# Altium footprint library LEDs.PcbLib: 18 footprints (part 1 of 2)
Each footprint in its own frame and in the unit in brackets; x right, y up, seen from the top. Pads: shape width x height; smd on the part's side, far side on the other; paste and mask are expansions set on the pad; w line width, h text height; cw(c..) or ccw(c..) is an arc to the next point about the centre after c.
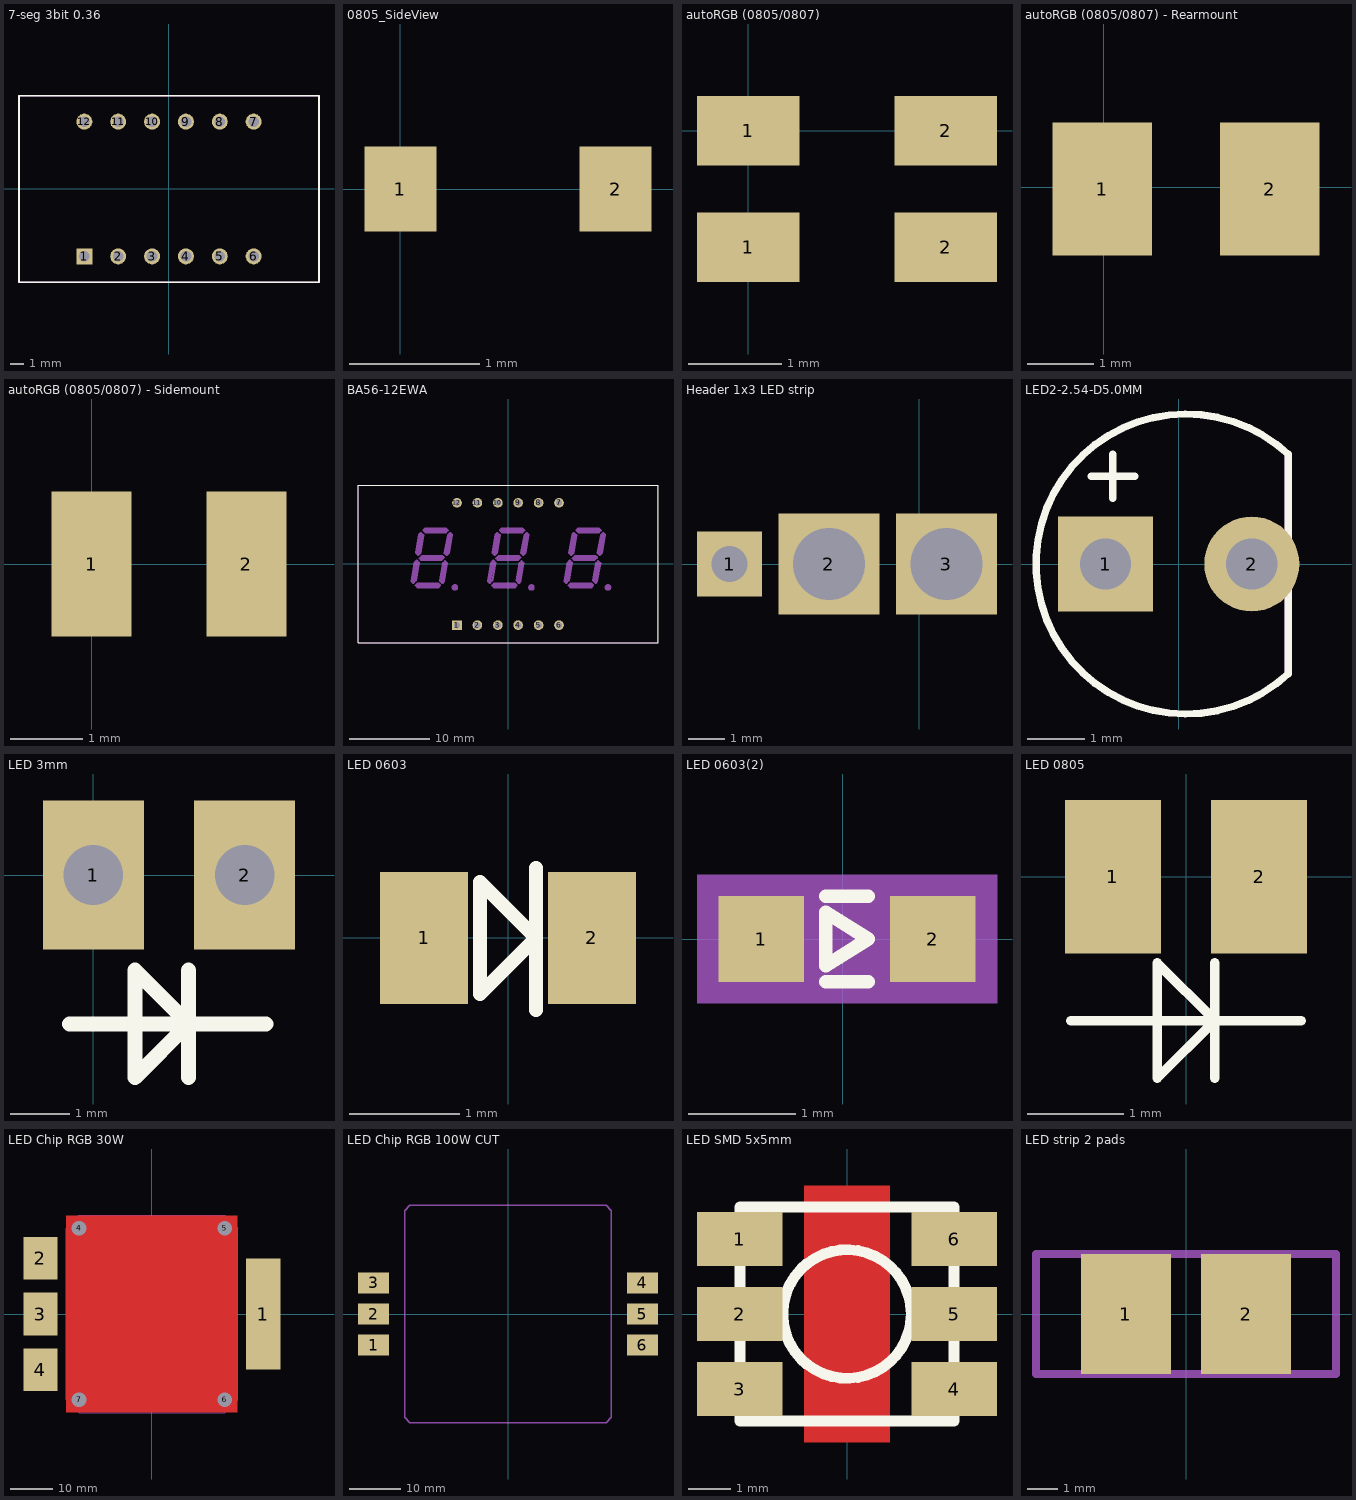
[diagram p0: the footprints below, top view; thin cyan lines are the x and y axes]

## 7-seg 3bit 0.36 [mm]
pads (12):
  rect 1.2x1.2 hole 0.8: 1(-6.35,-5.05)
  round 1.2 hole 0.8: 2(-3.81,-5.05) 3(-1.27,-5.05) 4(1.27,-5.05) 5(3.81,-5.05) 6(6.35,-5.05) 7(6.35,5.05) 8(3.81,5.05) 9(1.27,5.05) 10(-1.27,5.05) 11(-3.81,5.05) 12(-6.35,5.05)
Top Overlay:
  lines w0.127: -11.249,-7.001 11.251,-7.001 ; -11.25,-7 -11.25,7 11.251,7 ; 11.249,-7 11.249,7
Mechanical 2:
  lines w0.127: -11.249,-7.001 11.251,-7.001 ; -11.25,-7 -11.25,7 11.251,7 ; 11.249,-7 11.249,7
3D body "0.36-3digit-7seg.step": height 7.3, standoff -2.4, extent -11.286,-6.951 11.213,7.05

## 0805_SideView [mm] "0805 Side View LED"
pads (2):
  rect 0.55x0.65 smd: 1(0,0) 2(1.65,0)

## autoRGB (0805/0807) [mm]
pads (4):
  rect 1.1x0.75 smd: 1(0,-1.25) 1(0,0) 2(2.125,-1.25) 2(2.125,0)

## autoRGB (0805/0807) - Rearmount [mm]
pads (2):
  rect 1.5x2 smd: 1(-0.025,-0.025) 2(2.5,-0.025)

## autoRGB (0805/0807) - Sidemount [mm]
pads (2):
  rect 1.1x2 smd: 1(0,0) 2(2.125,0)

## BA56-12EWA [mil]
pads (12):
  rect 47.25x47.25 hole 31.5: 1(-250,-300)
  round 47.25 hole 31.5: 2(-150,-300) 3(-50,-300) 4(50,-300) 5(150,-300) 6(250,-300) 7(250,300) 8(150,300) 9(50,300) 10(-50,300) 11(-150,300) 12(-250,300)
Top Overlay:
  lines w5: -735,-385 735,-385 735,385 -735,385 -735,-385
Mechanical 2:
  lines w5: -735.01,-385.01 -735.01,384.99 734.99,384.99 734.99,-385.01 -735.01,-385.01
Mechanical 18:
  drawing of 153 lines, arcs and shapes, not listed
3D body "0.56-3digit-7seg.step": height 316.93, standoff -248.03, extent -738.55,-373.14 741.76,374.89

## Header 1x3 LED strip [mm]
pads (3):
  rect 1.8x1.8 hole 1: 1(-5.25,0)
  rect 2.8x2.8 hole 2: 2(-2.5,0) 3(0.75,0)

## LED2-2.54-D5.0MM [mil]
pads (2):
  rect 65x65 hole 35: 1(-49.99,0)
  round 65 hole 35: 2(49.99,0)
Top Overlay:
  lines w5: -60,60 -30,60 ; -45,45 -45,75 ; 74.97,-75.03 cw(c5,0) 74.97,75.03 74.97,-75.03
Mechanical 13:
  lines w5: 75,-75 75,75
3D body "everlight-5MM-LED-GREEN.step": height 513.25, standoff -115.4, extent -116.13,-116.13 98.43,116.15
3D body: height 10, standoff 0, extent 11.81,4.92 11.81,4.92

## LED 3mm [mm] "2.54mm"
pads (2):
  rect 1.7x2.5 hole 1: 1(0,0) 2(2.54,0)
Top Overlay:
  lines w0.254: -0.4,-2.5 2.9,-2.5 ; 1.6,-3.4 1.6,-1.6 ; 0.7,-3.4 0.7,-1.6 1.6,-2.5 0.7,-3.4
3D body "5mm LED.STEP": height 18.6, standoff -17, extent -1.709,-3.048 3.741,2.851

## LED 0603 [mm]
pads (2):
  rect 0.8x1.2 smd: 1(-0.762,0) 2(0.762,0)
Top Overlay:
  lines w0.127: 0.254,-0.654 0.254,0.635 ; -0.254,-0.508 -0.254,0.508 0.254,0 -0.254,-0.508
3D body "LED-0603H0.75.stp": height 0.75, standoff 0, extent -0.811,-0.45 0.889,0.45

## LED 0603(2) [mm]
pads (2):
  rect 0.8x0.8 smd: 1(-0.762,0) 2(0.838,0)
Top Overlay:
  lines w0.127: -0.162,-0.4 0.238,-0.4 ; -0.162,0.4 0.238,0.4 ; -0.162,-0.25 -0.162,0.25 0.238,0 -0.162,-0.25
Mechanical 1:
  lines w0.127: -0.762,-0.4 -0.762,0.4 0.838,0.4 0.838,-0.4 -0.762,-0.4
Mechanical 4:
  region: 1.438,-0.6 -1.362,-0.6 -1.362,0.6 1.438,0.6

## LED 0805 [mm]
pads (2):
  rect 1x1.6 smd: 1(-0.762,0) 2(0.762,0)
Top Overlay:
  lines w0.1: -1.2,-1.5 1.2,-1.5 ; 0.3,-2.1 0.3,-0.9 ; -0.3,-2.1 0.3,-1.5 -0.3,-0.9 -0.3,-2.1
3D body "LED-0805h1.1.stp": height 1.1, standoff 0, extent -1.039,-0.675 1.061,0.675

## LED Chip RGB 30W [mm]
pads (8):
  rect 8x26 smd: 1(26,0)
  rect 8x10 smd: 2(-26,13) 3(-26,0) 4(-26,-13)
  round 2.3 hole 3.4: 4(-17,20) 5(17,20) 6(17,-20) 7(-17,-20)
Top Layer:
  rectangle: -20,-23 20,23
Mechanical 1:
  lines w0.254: -20,-20 -20,20 -17,23 17,23 20,20 20,-20 17,-23 -17,-23 -20,-20 ; -20,-20 -20,-20

## LED Chip RGB 100W CUT [mm]
pads (6):
  rect 6x4 smd: 1(-26,-6) 2(-26,0) 3(-26,6) 4(26,6) 5(26,0) 6(26,-6)
Mechanical 1:
  lines w0.254: -20,-20 -19,-21 19,-21 20,-20 20,20 19,21 -19,21 -20,20 -20,-20 ; -20,-20 -20,-20

## LED SMD 5x5mm [mm]
pads (6):
  rect 2x1.25 smd: 1(-2.5,1.75) 2(-2.5,0) 3(-2.5,-1.75) 4(2.5,-1.75) 5(2.5,0) 6(2.5,1.75)
Top Layer:
  rectangle: -1,-3 1,3
Top Overlay:
  circle w0.254: c0,0 r1.5
  lines w0.254: -2.5,-2.5 -2.5,2.5 2.5,2.5 2.5,-2.5 -2.5,-2.5

## LED strip 2 pads [mm]
pads (2):
  rect 3x4 smd: 1(-2,0) 2(2,0)
Mechanical 1:
  lines w0.254: -5,-2 5,-2 5,2 -5,2 -5,-2